# EAGLE library part GYSFFMANC (library gps)
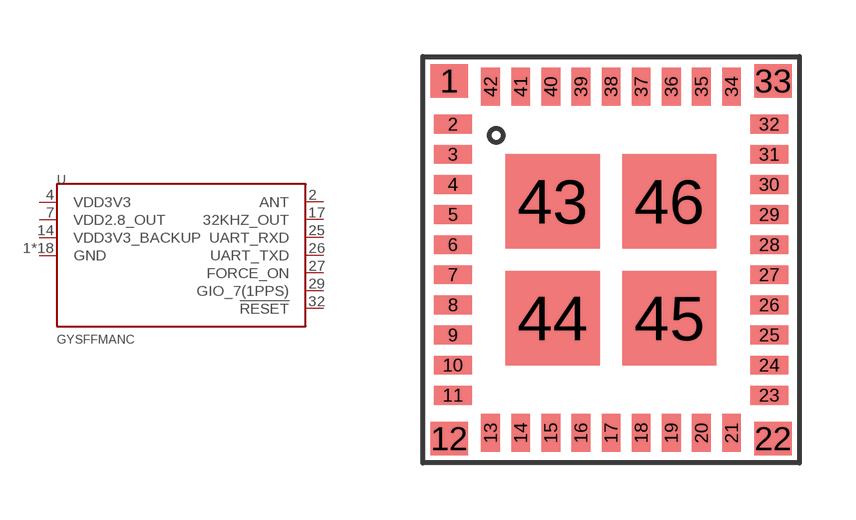
[diagram p0: symbol with the pads of GYSFFMANC; footprint GYSFFMANC]

Designator prefix -

## GYSFFMANC  [GYSFFMANC]
1  GND  pwr
2  ANT  in
3  GND  pwr
4  VDD3V3  pwr
7  VDD2.8_OUT  pwr
8  GND  pwr
10  GND  pwr
12  GND  pwr
14  VDD3V3_BACKUP  pwr
17  32KHZ_OUT  out
22  GND  pwr
25  UART_RXD  in
26  UART_TXD  out
27  FORCE_ON  in
29  GIO_7(1PPS)
32  !RESET!  in
33  GND  pwr
36  GND  pwr
37  GND  pwr
38  GND  pwr
39  GND  pwr
40  GND  pwr
41  GND  pwr
42  GND  pwr
43  GND  pwr
44  GND  pwr
45  GND  pwr
46  GND  pwr

## Footprint GYSFFMANC (pad centres in mm)
smd 1 x 0.9: 1 -4.3,4.75; 12 -4.3,-4.75; 22 4.3,-4.75; 33 4.3,4.75
smd 1 x 0.5: 2 -4.2,3.6; 3 -4.2,2.8; 4 -4.2,2; 5 -4.2,1.2; 6 -4.2,0.4; 7 -4.2,-0.4; 8 -4.2,-1.2; 9 -4.2,-2; 10 -4.2,-2.8; 11 -4.2,-3.6; 23 4.2,-3.6; 24 4.2,-2.8; 25 4.2,-2; 26 4.2,-1.2; 27 4.2,-0.4; 28 4.2,0.4; 29 4.2,1.2; 30 4.2,2; 31 4.2,2.8; 32 4.2,3.6
smd 0.5 x 1: 13 -3.2,-4.6; 14 -2.4,-4.6; 15 -1.6,-4.6; 16 -0.8,-4.6; 17 0,-4.6; 18 0.8,-4.6; 19 1.6,-4.6; 20 2.4,-4.6; 21 3.2,-4.6; 34 3.2,4.6; 35 2.4,4.6; 36 1.6,4.6; 37 0.8,4.6; 38 0,4.6; 39 -0.8,4.6; 40 -1.6,4.6; 41 -2.4,4.6; 42 -3.2,4.6
smd 2.5 x 2.5: 43 -1.55,1.55; 44 -1.55,-1.55; 45 1.55,-1.55; 46 1.55,1.55